# Altium integrated library Agilent LED Display 7-Segment, 1-Digit.IntLib: 237 symbols (part 5 of 5)
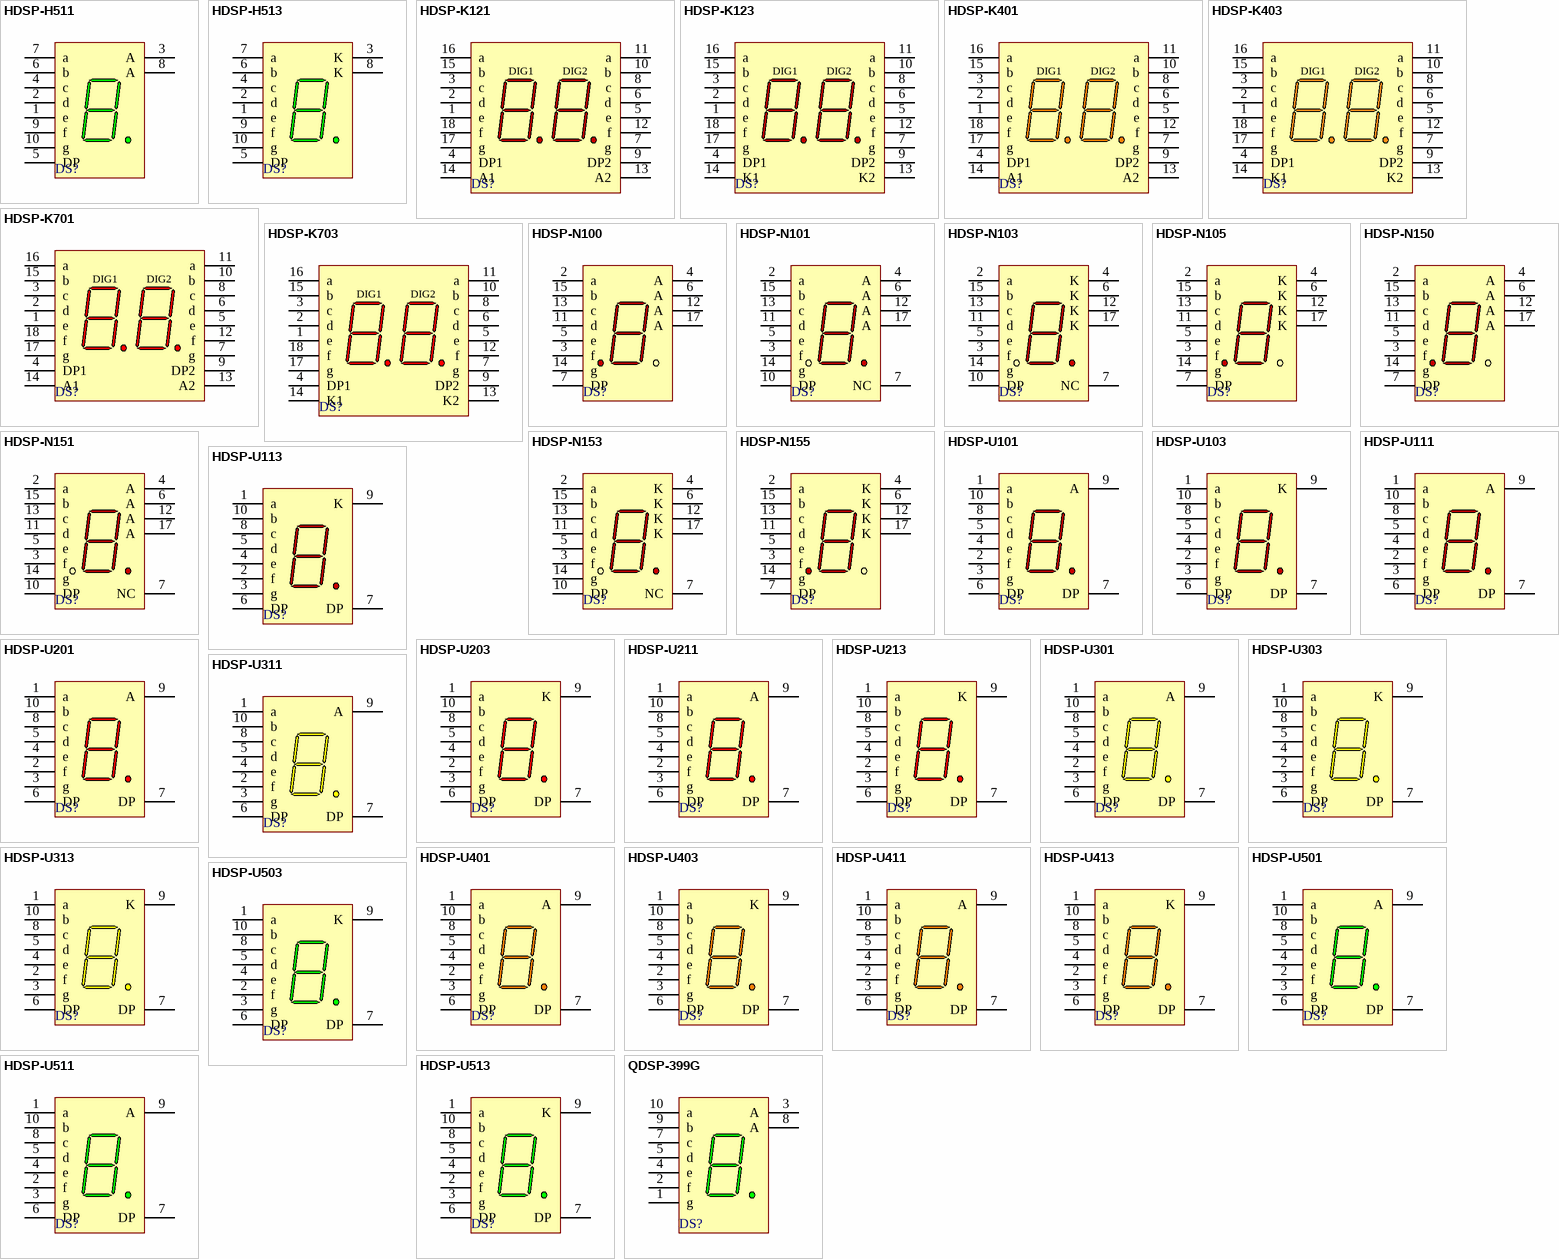
[diagram p9: symbols HDSP-H511 to QDSP-399G]

## HDSP-K701
designator DS?
14.22 mm Low Current HER 7-Segment Display: 2-Digit, CA, RH DP; LuminousIntensity: 270 ucd (Minimum).; LED_Colour: High Efficiency Red (HER); Published: 26-May-2004; LatestRevisionDate: 11-Oct-2004; LatestRevisionNote: Display outline superimposed on PCB Footprint.; DatasheetDocument: 11-Mar-2003; PackageDocument: 09-Jan-2002; PackageReference: K; Publisher: Altium Limited; ComponentLink1Description: Manufacturer Link; ComponentLink1URL: http://www.agilent.com/; ComponentLink2Description: Datasheet; ComponentLink2URL: http://cp.literature.agilent.com/litweb/pdf/5989-2824EN.pdf
footprint K (LED, 7-Segment Display, 14.22 mm, Dual Digit; 18 Leads; Row Space 15.24 mm; Pitch 2.54 mm)
simulation model HDSP_K701 (SUBCKT)
pins: 1 e "Digit 1 e Cathode", 2 d "Digit 1 d Cathode", 3 c "Digit 1 c Cathode", 4 DP1 "Digit 1 DP Cathode", 5 e "Digit 2 e Cathode", 6 d "Digit 2 d Cathode", 7 g "Digit 2 g Cathode", 8 c "Digit 2 c Cathode", 9 DP2 "Digit 2 DP Cathode", 10 b "Digit 2 b Cathode", 11 a "Digit 2 a Cathode", 12 f "Digit 2 f Cathode", 13 A2 "Digit 2 Common Anode", 14 A1 "Digit 1 Common Anode", 15 b "Digit 1 b Cathode", 16 a "Digit 1 a Cathode", 17 g "Digit 1 g Cathode", 18 f "Digit 1 f Cathode"
text: DIG1; DIG2

## HDSP-K703
designator DS?
14.22 mm Low Current HER 7-Segment Display: 2-Digit, CC, RH DP; LuminousIntensity: 270 ucd (Minimum).; LED_Colour: High Efficiency Red (HER); Published: 26-May-2004; LatestRevisionDate: 11-Oct-2004; LatestRevisionNote: Display outline superimposed on PCB Footprint.; DatasheetDocument: 11-Mar-2003; PackageDocument: 09-Jan-2002; PackageReference: K; Publisher: Altium Limited; ComponentLink1Description: Manufacturer Link; ComponentLink1URL: http://www.agilent.com/; ComponentLink2Description: Datasheet; ComponentLink2URL: http://cp.literature.agilent.com/litweb/pdf/5989-2824EN.pdf
footprint K (LED, 7-Segment Display, 14.22 mm, Dual Digit; 18 Leads; Row Space 15.24 mm; Pitch 2.54 mm)
simulation model HDSP_K703 (SUBCKT)
pins: 1 e "Digit 1 e Anode", 2 d "Digit 1 d Anode", 3 c "Digit 1 c Anode", 4 DP1 "Digit 1 DP Anode", 5 e "Digit 2 e Anode", 6 d "Digit 2 d Anode", 7 g "Digit 2 g Anode", 8 c "Digit 2 c Anode", 9 DP2 "Digit 2 DP Anode", 10 b "Digit 2 b Anode", 11 a "Digit 2 a Anode", 12 f "Digit 2 f Anode", 13 K2 "Digit 2 Common Cathode", 14 K1 "Digit 1 Common Cathode", 15 b "Digit 1 b Anode", 16 a "Digit 1 a Anode", 17 g "Digit 1 g Anode", 18 f "Digit 1 f Anode"
text: DIG1; DIG2

## HDSP-N100
designator DS?
20.32 mm Low Current AlGaAs 7-Segment Display: CA, LH DP; LuminousIntensity: 270 ucd (Minimum).; LED_Colour: AlGaAs Red; Note: Pins 4, 6, 12 and 17 are redundant Anodes.; Note: No pins are present in positions 1, 8, 9, 10, 16 and 18.; Published: 26-May-2004; LatestRevisionDate: 11-Oct-2004; LatestRevisionNote: Display outline superimposed on PCB Footprint.; DatasheetDocument: 11-Mar-2003; PackageDocument: 26-Jul-2001; PackageReference: N-12; Publisher: Altium Limited; ComponentLink1Description: Manufacturer Link; ComponentLink1URL: http://www.agilent.com/; ComponentLink2Description: Datasheet; ComponentLink2URL: http://cp.literature.agilent.com/litweb/pdf/5989-2824EN.pdf
footprint N-12 (LED, 7-Segment Display, 20.32 mm, LHD; 18 Leads (6 Absent); Row Space 15.24 mm; Pitch 2.54 mm)
simulation model HDSP_N100 (SUBCKT)
pins: 2 a "Cathode", 3 f "Cathode", 4 A "Anode", 5 e "Cathode", 6 A "Anode", 7 DP "Cathode", 11 d "Cathode", 12 A "Anode", 13 c "Cathode", 14 g "Cathode", 15 b "Cathode", 17 A "Anode"

## HDSP-N101
designator DS?
20.32 mm Low Current AlGaAs 7-Segment Display: CA, RH DP; LuminousIntensity: 270 ucd (Minimum).; LED_Colour: AlGaAs Red; Note: Pins 4, 6, 12 and 17 are redundant Anodes.; Note: No pins are present in positions 1, 8, 9, 16 and 18.; Published: 26-May-2004; LatestRevisionDate: 11-Oct-2004; LatestRevisionNote: Display outline superimposed on PCB Footprint.; DatasheetDocument: 11-Mar-2003; PackageDocument: 26-Jul-2001; PackageReference: N-13; Publisher: Altium Limited; ComponentLink1Description: Manufacturer Link; ComponentLink1URL: http://www.agilent.com/; ComponentLink2Description: Datasheet; ComponentLink2URL: http://cp.literature.agilent.com/litweb/pdf/5989-2824EN.pdf
footprint N-13 (LED, 7-Segment Display, 20.32 mm, RHD; 18 Leads (5 Absent); Row Space 15.24 mm; Pitch 2.54 mm)
simulation model HDSP_N101 (SUBCKT)
pins: 2 a "Cathode", 3 f "Cathode", 4 A "Anode", 5 e "Cathode", 6 A "Anode", 7 NC "No Connect", 10 DP "Cathode", 11 d "Cathode", 12 A "Anode", 13 c "Cathode", 14 g "Cathode", 15 b "Cathode", 17 A "Anode"

## HDSP-N103
designator DS?
20.32 mm Low Current AlGaAs 7-Segment Display: CC, RH DP; LuminousIntensity: 270 ucd (Minimum).; LED_Colour: AlGaAs Red; Note: Pins 4, 6, 12 and 17 are redundant Cathodes.; Note: No pins are present in positions 1, 8, 9, 16 and 18.; Published: 26-May-2004; LatestRevisionDate: 11-Oct-2004; LatestRevisionNote: Display outline superimposed on PCB Footprint.; DatasheetDocument: 11-Mar-2003; PackageDocument: 26-Jul-2001; PackageReference: N-13; Publisher: Altium Limited; ComponentLink1Description: Manufacturer Link; ComponentLink1URL: http://www.agilent.com/; ComponentLink2Description: Datasheet; ComponentLink2URL: http://cp.literature.agilent.com/litweb/pdf/5989-2824EN.pdf
footprint N-13 (LED, 7-Segment Display, 20.32 mm, RHD; 18 Leads (5 Absent); Row Space 15.24 mm; Pitch 2.54 mm)
simulation model HDSP_N103 (SUBCKT)
pins: 2 a "Anode", 3 f "Anode", 4 K "Cathode", 5 e "Anode", 6 K "Cathode", 7 NC "No Connect", 10 DP "Anode", 11 d "Anode", 12 K "Cathode", 13 c "Anode", 14 g "Anode", 15 b "Anode", 17 K "Cathode"

## HDSP-N105
designator DS?
20.32 mm Low Current AlGaAs 7-Segment Display: CC, LH DP; LuminousIntensity: 270 ucd (Minimum).; LED_Colour: AlGaAs Red; Note: Pins 4, 6, 12 and 17 are redundant Cathodes.; Note: No pins are present in positions 1, 8, 9, 10, 16 and 18.; Published: 26-May-2004; LatestRevisionDate: 11-Oct-2004; LatestRevisionNote: Display outline superimposed on PCB Footprint.; DatasheetDocument: 11-Mar-2003; PackageDocument: 26-Jul-2001; PackageReference: N-12; Publisher: Altium Limited; ComponentLink1Description: Manufacturer Link; ComponentLink1URL: http://www.agilent.com/; ComponentLink2Description: Datasheet; ComponentLink2URL: http://cp.literature.agilent.com/litweb/pdf/5989-2824EN.pdf
footprint N-12 (LED, 7-Segment Display, 20.32 mm, LHD; 18 Leads (6 Absent); Row Space 15.24 mm; Pitch 2.54 mm)
simulation model HDSP_N105 (SUBCKT)
pins: 2 a "Anode", 3 f "Anode", 4 K "Cathode", 5 e "Anode", 6 K "Cathode", 7 DP "Anode", 11 d "Anode", 12 K "Cathode", 13 c "Anode", 14 g "Anode", 15 b "Anode", 17 K "Cathode"

## HDSP-N150
designator DS?
20.32 mm Gray Package AlGaAs 7-Segment Display: CA, LH DP; LuminousIntensity: 6000 ucd (Minimum).; LED_Colour: AlGaAs Red; Note: Pins 4, 6, 12 and 17 are redundant Anodes.; Note: No pins are present in positions 1, 8, 9, 10, 16 and 18.; Published: 26-May-2004; LatestRevisionDate: 11-Oct-2004; LatestRevisionNote: Display outline superimposed on PCB Footprint.; DatasheetDocument: 26-Jul-2001; PackageDocument: 26-Jul-2001; PackageReference: N-12; Publisher: Altium Limited; ComponentLink1Description: Manufacturer Link; ComponentLink1URL: http://www.agilent.com/; ComponentLink2Description: Datasheet; ComponentLink2URL: http://cp.literature.agilent.com/litweb/pdf/5988-1737EN.pdf
footprint N-12 (LED, 7-Segment Display, 20.32 mm, LHD; 18 Leads (6 Absent); Row Space 15.24 mm; Pitch 2.54 mm)
simulation model HDSP_N150 (SUBCKT)
pins: 2 a "Cathode", 3 f "Cathode", 4 A "Anode", 5 e "Cathode", 6 A "Anode", 7 DP "Cathode", 11 d "Cathode", 12 A "Anode", 13 c "Cathode", 14 g "Cathode", 15 b "Cathode", 17 A "Anode"

## HDSP-N151
designator DS?
20.32 mm Gray Package AlGaAs 7-Segment Display: CA, RH DP; LuminousIntensity: 6000 ucd (Minimum).; LED_Colour: AlGaAs Red; Note: Pins 4, 6, 12 and 17 are redundant Anodes.; Note: No pins are present in positions 1, 8, 9, 16 and 18.; Published: 26-May-2004; LatestRevisionDate: 11-Oct-2004; LatestRevisionNote: Display outline superimposed on PCB Footprint.; DatasheetDocument: 26-Jul-2001; PackageDocument: 26-Jul-2001; PackageReference: N-13; Publisher: Altium Limited; ComponentLink1Description: Manufacturer Link; ComponentLink1URL: http://www.agilent.com/; ComponentLink2Description: Datasheet; ComponentLink2URL: http://cp.literature.agilent.com/litweb/pdf/5988-1737EN.pdf
footprint N-13 (LED, 7-Segment Display, 20.32 mm, RHD; 18 Leads (5 Absent); Row Space 15.24 mm; Pitch 2.54 mm)
simulation model HDSP_N151 (SUBCKT)
pins: 2 a "Cathode", 3 f "Cathode", 4 A "Anode", 5 e "Cathode", 6 A "Anode", 7 NC "No Connect", 10 DP "Cathode", 11 d "Cathode", 12 A "Anode", 13 c "Cathode", 14 g "Cathode", 15 b "Cathode", 17 A "Anode"

## HDSP-N153
designator DS?
20.32 mm Gray Package AlGaAs 7-Segment Display: CC, RH DP; LuminousIntensity: 6000 ucd (Minimum).; LED_Colour: AlGaAs Red; Note: Pins 4, 6, 12 and 17 are redundant Cathodes.; Note: No pins are present in positions 1, 8, 9, 16 and 18.; Published: 26-May-2004; LatestRevisionDate: 11-Oct-2004; LatestRevisionNote: Display outline superimposed on PCB Footprint.; DatasheetDocument: 26-Jul-2001; PackageDocument: 26-Jul-2001; PackageReference: N-13; Publisher: Altium Limited; ComponentLink1Description: Manufacturer Link; ComponentLink1URL: http://www.agilent.com/; ComponentLink2Description: Datasheet; ComponentLink2URL: http://cp.literature.agilent.com/litweb/pdf/5988-1737EN.pdf
footprint N-13 (LED, 7-Segment Display, 20.32 mm, RHD; 18 Leads (5 Absent); Row Space 15.24 mm; Pitch 2.54 mm)
simulation model HDSP_N153 (SUBCKT)
pins: 2 a "Anode", 3 f "Anode", 4 K "Cathode", 5 e "Anode", 6 K "Cathode", 7 NC "No Connect", 10 DP "Anode", 11 d "Anode", 12 K "Cathode", 13 c "Anode", 14 g "Anode", 15 b "Anode", 17 K "Cathode"

## HDSP-N155
designator DS?
20.32 mm Gray Package AlGaAs 7-Segment Display: CC, LH DP; LuminousIntensity: 6000 ucd (Minimum).; LED_Colour: AlGaAs Red; Note: Pins 4, 6, 12 and 17 are redundant Cathodes.; Note: No pins are present in positions 1, 8, 9, 10, 16 and 18.; Published: 26-May-2004; LatestRevisionDate: 11-Oct-2004; LatestRevisionNote: Display outline superimposed on PCB Footprint.; DatasheetDocument: 26-Jul-2001; PackageDocument: 26-Jul-2001; PackageReference: N-12; Publisher: Altium Limited; ComponentLink1Description: Manufacturer Link; ComponentLink1URL: http://www.agilent.com/; ComponentLink2Description: Datasheet; ComponentLink2URL: http://cp.literature.agilent.com/litweb/pdf/5988-1737EN.pdf
footprint N-12 (LED, 7-Segment Display, 20.32 mm, LHD; 18 Leads (6 Absent); Row Space 15.24 mm; Pitch 2.54 mm)
simulation model HDSP_N155 (SUBCKT)
pins: 2 a "Anode", 3 f "Anode", 4 K "Cathode", 5 e "Anode", 6 K "Cathode", 7 DP "Anode", 11 d "Anode", 12 K "Cathode", 13 c "Anode", 14 g "Anode", 15 b "Anode", 17 K "Cathode"

## HDSP-U101
designator DS?
8 mm Gray Surface Ultra Mini AlGaAs Red 7-Segment Display: CA, RH DP; LuminousIntensity: 315 ucd (Minimum).; Published: 26-May-2004; LatestRevisionDate: 11-Oct-2004; LatestRevisionNote: Display outline superimposed on PCB Footprint.; DatasheetDocument: 26-Jul-2001; PackageDocument: 26-Jul-2001; PackageReference: U; Publisher: Altium Limited; LED_Colour: AlGaAs Red; ComponentLink1Description: Manufacturer Link; ComponentLink1URL: http://www.agilent.com/; ComponentLink2Description: Datasheet; ComponentLink2URL: http://cp.literature.agilent.com/litweb/pdf/5988-2220EN.pdf
footprint U (LED, 7-Segment Display, 8 mm, RHD; 10 Leads; Row Space 5.31 mm; Pitch 2.01 mm)
simulation model HDSP_U101 (SUBCKT)
pins: 1 a "Cathode", 2 f "Cathode", 3 g "Cathode", 4 e "Cathode", 5 d "Cathode", 6 DP "Cathode", 7 DP "Anode", 8 c "Cathode", 9 A "Anode", 10 b "Cathode"

## HDSP-U103
designator DS?
8 mm Gray Surface Ultra Mini AlGaAs Red 7-Segment Display: CC, RH DP; LuminousIntensity: 315 ucd (Minimum).; Published: 26-May-2004; LatestRevisionDate: 11-Oct-2004; LatestRevisionNote: Display outline superimposed on PCB Footprint.; DatasheetDocument: 26-Jul-2001; PackageDocument: 26-Jul-2001; PackageReference: U; Publisher: Altium Limited; LED_Colour: AlGaAs Red; ComponentLink1Description: Manufacturer Link; ComponentLink1URL: http://www.agilent.com/; ComponentLink2Description: Datasheet; ComponentLink2URL: http://cp.literature.agilent.com/litweb/pdf/5988-2220EN.pdf
footprint U (LED, 7-Segment Display, 8 mm, RHD; 10 Leads; Row Space 5.31 mm; Pitch 2.01 mm)
simulation model HDSP_U103 (SUBCKT)
pins: 1 a "Anode", 2 f "Anode", 3 g "Anode", 4 e "Anode", 5 d "Anode", 6 DP "Cathode", 7 DP "Anode", 8 c "Anode", 9 K "Cathode", 10 b "Anode"

## HDSP-U111
designator DS?
8 mm Black Surface Ultra Mini AlGaAs Red 7-Segment Display: CA, RH DP; LuminousIntensity: 315 ucd (Minimum).; Published: 26-May-2004; LatestRevisionDate: 11-Oct-2004; LatestRevisionNote: Display outline superimposed on PCB Footprint.; DatasheetDocument: 26-Jul-2001; PackageDocument: 26-Jul-2001; PackageReference: U; Publisher: Altium Limited; LED_Colour: AlGaAs Red; ComponentLink1Description: Manufacturer Link; ComponentLink1URL: http://www.agilent.com/; ComponentLink2Description: Datasheet; ComponentLink2URL: http://cp.literature.agilent.com/litweb/pdf/5988-2220EN.pdf
footprint U (LED, 7-Segment Display, 8 mm, RHD; 10 Leads; Row Space 5.31 mm; Pitch 2.01 mm)
simulation model HDSP_U101 (SUBCKT)
pins: 1 a "Cathode", 2 f "Cathode", 3 g "Cathode", 4 e "Cathode", 5 d "Cathode", 6 DP "Cathode", 7 DP "Anode", 8 c "Cathode", 9 A "Anode", 10 b "Cathode"

## HDSP-U113
designator DS?
8 mm Black Surface Ultra Mini AlGaAs Red 7-Segment Display: CC, RH DP; LuminousIntensity: 315 ucd (Minimum).; Published: 26-May-2004; LatestRevisionDate: 11-Oct-2004; LatestRevisionNote: Display outline superimposed on PCB Footprint.; DatasheetDocument: 26-Jul-2001; PackageDocument: 26-Jul-2001; PackageReference: U; Publisher: Altium Limited; LED_Colour: AlGaAs Red; ComponentLink1Description: Manufacturer Link; ComponentLink1URL: http://www.agilent.com/; ComponentLink2Description: Datasheet; ComponentLink2URL: http://cp.literature.agilent.com/litweb/pdf/5988-2220EN.pdf
footprint U (LED, 7-Segment Display, 8 mm, RHD; 10 Leads; Row Space 5.31 mm; Pitch 2.01 mm)
simulation model HDSP_U103 (SUBCKT)
pins: 1 a "Anode", 2 f "Anode", 3 g "Anode", 4 e "Anode", 5 d "Anode", 6 DP "Cathode", 7 DP "Anode", 8 c "Anode", 9 K "Cathode", 10 b "Anode"

## HDSP-U201
designator DS?
8 mm Gray Surface Ultra Mini HER 7-Segment Display: CA, RH DP; LuminousIntensity: 360 ucd (Minimum).; LED_Colour: High Efficiency Red (HER); Published: 26-May-2004; LatestRevisionDate: 11-Oct-2004; LatestRevisionNote: Display outline superimposed on PCB Footprint.; DatasheetDocument: 26-Jul-2001; PackageDocument: 26-Jul-2001; PackageReference: U; Publisher: Altium Limited; ComponentLink1Description: Manufacturer Link; ComponentLink1URL: http://www.agilent.com/; ComponentLink2Description: Datasheet; ComponentLink2URL: http://cp.literature.agilent.com/litweb/pdf/5988-2220EN.pdf
footprint U (LED, 7-Segment Display, 8 mm, RHD; 10 Leads; Row Space 5.31 mm; Pitch 2.01 mm)
simulation model HDSP_U201 (SUBCKT)
pins: 1 a "Cathode", 2 f "Cathode", 3 g "Cathode", 4 e "Cathode", 5 d "Cathode", 6 DP "Cathode", 7 DP "Anode", 8 c "Cathode", 9 A "Anode", 10 b "Cathode"

## HDSP-U203
designator DS?
8 mm Gray Surface Ultra Mini HER 7-Segment Display: CC, RH DP; LuminousIntensity: 360 ucd (Minimum).; LED_Colour: High Efficiency Red (HER); Published: 26-May-2004; LatestRevisionDate: 11-Oct-2004; LatestRevisionNote: Display outline superimposed on PCB Footprint.; DatasheetDocument: 26-Jul-2001; PackageDocument: 26-Jul-2001; PackageReference: U; Publisher: Altium Limited; ComponentLink1Description: Manufacturer Link; ComponentLink1URL: http://www.agilent.com/; ComponentLink2Description: Datasheet; ComponentLink2URL: http://cp.literature.agilent.com/litweb/pdf/5988-2220EN.pdf
footprint U (LED, 7-Segment Display, 8 mm, RHD; 10 Leads; Row Space 5.31 mm; Pitch 2.01 mm)
simulation model HDSP_U203 (SUBCKT)
pins: 1 a "Anode", 2 f "Anode", 3 g "Anode", 4 e "Anode", 5 d "Anode", 6 DP "Cathode", 7 DP "Anode", 8 c "Anode", 9 K "Cathode", 10 b "Anode"

## HDSP-U211
designator DS?
8 mm Black Surface Ultra Mini HER 7-Segment Display: CA, RH DP; LuminousIntensity: 360 ucd (Minimum).; LED_Colour: High Efficiency Red (HER); Published: 26-May-2004; LatestRevisionDate: 11-Oct-2004; LatestRevisionNote: Display outline superimposed on PCB Footprint.; DatasheetDocument: 26-Jul-2001; PackageDocument: 26-Jul-2001; PackageReference: U; Publisher: Altium Limited; ComponentLink1Description: Manufacturer Link; ComponentLink1URL: http://www.agilent.com/; ComponentLink2Description: Datasheet; ComponentLink2URL: http://cp.literature.agilent.com/litweb/pdf/5988-2220EN.pdf
footprint U (LED, 7-Segment Display, 8 mm, RHD; 10 Leads; Row Space 5.31 mm; Pitch 2.01 mm)
simulation model HDSP_U201 (SUBCKT)
pins: 1 a "Cathode", 2 f "Cathode", 3 g "Cathode", 4 e "Cathode", 5 d "Cathode", 6 DP "Cathode", 7 DP "Anode", 8 c "Cathode", 9 A "Anode", 10 b "Cathode"

## HDSP-U213
designator DS?
8 mm Black Surface Ultra Mini HER 7-Segment Display: CC, RH DP; LuminousIntensity: 360 ucd (Minimum).; LED_Colour: High Efficiency Red (HER); Published: 26-May-2004; LatestRevisionDate: 11-Oct-2004; LatestRevisionNote: Display outline superimposed on PCB Footprint.; DatasheetDocument: 26-Jul-2001; PackageDocument: 26-Jul-2001; PackageReference: U; Publisher: Altium Limited; ComponentLink1Description: Manufacturer Link; ComponentLink1URL: http://www.agilent.com/; ComponentLink2Description: Datasheet; ComponentLink2URL: http://cp.literature.agilent.com/litweb/pdf/5988-2220EN.pdf
footprint U (LED, 7-Segment Display, 8 mm, RHD; 10 Leads; Row Space 5.31 mm; Pitch 2.01 mm)
simulation model HDSP_U203 (SUBCKT)
pins: 1 a "Anode", 2 f "Anode", 3 g "Anode", 4 e "Anode", 5 d "Anode", 6 DP "Cathode", 7 DP "Anode", 8 c "Anode", 9 K "Cathode", 10 b "Anode"

## HDSP-U301
designator DS?
8 mm Gray Surface Ultra Mini Yellow 7-Segment Display: CA, RH DP; LuminousIntensity: 225 ucd (Minimum).; Published: 26-May-2004; LatestRevisionDate: 11-Oct-2004; LatestRevisionNote: Display outline superimposed on PCB Footprint.; DatasheetDocument: 26-Jul-2001; PackageDocument: 26-Jul-2001; PackageReference: U; Publisher: Altium Limited; LED_Colour: Yellow; ComponentLink1Description: Manufacturer Link; ComponentLink1URL: http://www.agilent.com/; ComponentLink2Description: Datasheet; ComponentLink2URL: http://cp.literature.agilent.com/litweb/pdf/5988-2220EN.pdf
footprint U (LED, 7-Segment Display, 8 mm, RHD; 10 Leads; Row Space 5.31 mm; Pitch 2.01 mm)
simulation model HDSP_U301 (SUBCKT)
pins: 1 a "Cathode", 2 f "Cathode", 3 g "Cathode", 4 e "Cathode", 5 d "Cathode", 6 DP "Cathode", 7 DP "Anode", 8 c "Cathode", 9 A "Anode", 10 b "Cathode"

## HDSP-U303
designator DS?
8 mm Gray Surface Ultra Mini Yellow 7-Segment Display: CC, RH DP; LuminousIntensity: 225 ucd (Minimum).; Published: 26-May-2004; LatestRevisionDate: 11-Oct-2004; LatestRevisionNote: Display outline superimposed on PCB Footprint.; DatasheetDocument: 26-Jul-2001; PackageDocument: 26-Jul-2001; PackageReference: U; Publisher: Altium Limited; LED_Colour: Yellow; ComponentLink1Description: Manufacturer Link; ComponentLink1URL: http://www.agilent.com/; ComponentLink2Description: Datasheet; ComponentLink2URL: http://cp.literature.agilent.com/litweb/pdf/5988-2220EN.pdf
footprint U (LED, 7-Segment Display, 8 mm, RHD; 10 Leads; Row Space 5.31 mm; Pitch 2.01 mm)
simulation model HDSP_U303 (SUBCKT)
pins: 1 a "Anode", 2 f "Anode", 3 g "Anode", 4 e "Anode", 5 d "Anode", 6 DP "Cathode", 7 DP "Anode", 8 c "Anode", 9 K "Cathode", 10 b "Anode"

## HDSP-U311
designator DS?
8 mm Black Surface Ultra Mini Yellow 7-Segment Display: CA, RH DP; LuminousIntensity: 225 ucd (Minimum).; Published: 26-May-2004; LatestRevisionDate: 11-Oct-2004; LatestRevisionNote: Display outline superimposed on PCB Footprint.; DatasheetDocument: 26-Jul-2001; PackageDocument: 26-Jul-2001; PackageReference: U; Publisher: Altium Limited; LED_Colour: Yellow; ComponentLink1Description: Manufacturer Link; ComponentLink1URL: http://www.agilent.com/; ComponentLink2Description: Datasheet; ComponentLink2URL: http://cp.literature.agilent.com/litweb/pdf/5988-2220EN.pdf
footprint U (LED, 7-Segment Display, 8 mm, RHD; 10 Leads; Row Space 5.31 mm; Pitch 2.01 mm)
simulation model HDSP_U301 (SUBCKT)
pins: 1 a "Cathode", 2 f "Cathode", 3 g "Cathode", 4 e "Cathode", 5 d "Cathode", 6 DP "Cathode", 7 DP "Anode", 8 c "Cathode", 9 A "Anode", 10 b "Cathode"

## HDSP-U313
designator DS?
8 mm Black Surface Ultra Mini Yellow 7-Segment Display: CC, RH DP; LuminousIntensity: 225 ucd (Minimum).; Published: 26-May-2004; LatestRevisionDate: 11-Oct-2004; LatestRevisionNote: Display outline superimposed on PCB Footprint.; DatasheetDocument: 26-Jul-2001; PackageDocument: 26-Jul-2001; PackageReference: U; Publisher: Altium Limited; LED_Colour: Yellow; ComponentLink1Description: Manufacturer Link; ComponentLink1URL: http://www.agilent.com/; ComponentLink2Description: Datasheet; ComponentLink2URL: http://cp.literature.agilent.com/litweb/pdf/5988-2220EN.pdf
footprint U (LED, 7-Segment Display, 8 mm, RHD; 10 Leads; Row Space 5.31 mm; Pitch 2.01 mm)
simulation model HDSP_U303 (SUBCKT)
pins: 1 a "Anode", 2 f "Anode", 3 g "Anode", 4 e "Anode", 5 d "Anode", 6 DP "Cathode", 7 DP "Anode", 8 c "Anode", 9 K "Cathode", 10 b "Anode"

## HDSP-U401
designator DS?
8 mm Gray Surface Ultra Mini Orange 7-Segment Display: CA, RH DP; LuminousIntensity: 360 ucd (Minimum).; Published: 26-May-2004; LatestRevisionDate: 11-Oct-2004; LatestRevisionNote: Display outline superimposed on PCB Footprint.; DatasheetDocument: 26-Jul-2001; PackageDocument: 26-Jul-2001; PackageReference: U; Publisher: Altium Limited; LED_Colour: Orange; ComponentLink1Description: Manufacturer Link; ComponentLink1URL: http://www.agilent.com/; ComponentLink2Description: Datasheet; ComponentLink2URL: http://cp.literature.agilent.com/litweb/pdf/5988-2220EN.pdf
footprint U (LED, 7-Segment Display, 8 mm, RHD; 10 Leads; Row Space 5.31 mm; Pitch 2.01 mm)
simulation model HDSP_U401 (SUBCKT)
pins: 1 a "Cathode", 2 f "Cathode", 3 g "Cathode", 4 e "Cathode", 5 d "Cathode", 6 DP "Cathode", 7 DP "Anode", 8 c "Cathode", 9 A "Anode", 10 b "Cathode"

## HDSP-U403
designator DS?
8 mm Gray Surface Ultra Mini Orange 7-Segment Display: CC, RH DP; LuminousIntensity: 360 ucd (Minimum).; Published: 26-May-2004; LatestRevisionDate: 11-Oct-2004; LatestRevisionNote: Display outline superimposed on PCB Footprint.; DatasheetDocument: 26-Jul-2001; PackageDocument: 26-Jul-2001; PackageReference: U; Publisher: Altium Limited; LED_Colour: Orange; ComponentLink1Description: Manufacturer Link; ComponentLink1URL: http://www.agilent.com/; ComponentLink2Description: Datasheet; ComponentLink2URL: http://cp.literature.agilent.com/litweb/pdf/5988-2220EN.pdf
footprint U (LED, 7-Segment Display, 8 mm, RHD; 10 Leads; Row Space 5.31 mm; Pitch 2.01 mm)
simulation model HDSP_U403 (SUBCKT)
pins: 1 a "Anode", 2 f "Anode", 3 g "Anode", 4 e "Anode", 5 d "Anode", 6 DP "Cathode", 7 DP "Anode", 8 c "Anode", 9 K "Cathode", 10 b "Anode"

## HDSP-U411
designator DS?
8 mm Black Surface Ultra Mini Orange 7-Segment Display: CA, RH DP; LuminousIntensity: 360 ucd (Minimum).; Published: 26-May-2004; LatestRevisionDate: 11-Oct-2004; LatestRevisionNote: Display outline superimposed on PCB Footprint.; DatasheetDocument: 26-Jul-2001; PackageDocument: 26-Jul-2001; PackageReference: U; Publisher: Altium Limited; LED_Colour: Orange; ComponentLink1Description: Manufacturer Link; ComponentLink1URL: http://www.agilent.com/; ComponentLink2Description: Datasheet; ComponentLink2URL: http://cp.literature.agilent.com/litweb/pdf/5988-2220EN.pdf
footprint U (LED, 7-Segment Display, 8 mm, RHD; 10 Leads; Row Space 5.31 mm; Pitch 2.01 mm)
simulation model HDSP_U401 (SUBCKT)
pins: 1 a "Cathode", 2 f "Cathode", 3 g "Cathode", 4 e "Cathode", 5 d "Cathode", 6 DP "Cathode", 7 DP "Anode", 8 c "Cathode", 9 A "Anode", 10 b "Cathode"

## HDSP-U413
designator DS?
8 mm Black Surface Ultra Mini Orange 7-Segment Display: CC, RH DP; LuminousIntensity: 360 ucd (Minimum).; Published: 26-May-2004; LatestRevisionDate: 11-Oct-2004; LatestRevisionNote: Display outline superimposed on PCB Footprint.; DatasheetDocument: 26-Jul-2001; PackageDocument: 26-Jul-2001; PackageReference: U; Publisher: Altium Limited; LED_Colour: Orange; ComponentLink1Description: Manufacturer Link; ComponentLink1URL: http://www.agilent.com/; ComponentLink2Description: Datasheet; ComponentLink2URL: http://cp.literature.agilent.com/litweb/pdf/5988-2220EN.pdf
footprint U (LED, 7-Segment Display, 8 mm, RHD; 10 Leads; Row Space 5.31 mm; Pitch 2.01 mm)
simulation model HDSP_U403 (SUBCKT)
pins: 1 a "Anode", 2 f "Anode", 3 g "Anode", 4 e "Anode", 5 d "Anode", 6 DP "Cathode", 7 DP "Anode", 8 c "Anode", 9 K "Cathode", 10 b "Anode"

## HDSP-U501
designator DS?
8 mm Gray Surface Ultra Mini Green 7-Segment Display: CA, RH DP; LuminousIntensity: 860 ucd (Minimum).; Published: 26-May-2004; LatestRevisionDate: 11-Oct-2004; LatestRevisionNote: Display outline superimposed on PCB Footprint.; DatasheetDocument: 26-Jul-2001; PackageDocument: 26-Jul-2001; PackageReference: U; Publisher: Altium Limited; LED_Colour: Green; ComponentLink1Description: Manufacturer Link; ComponentLink1URL: http://www.agilent.com/; ComponentLink2Description: Datasheet; ComponentLink2URL: http://cp.literature.agilent.com/litweb/pdf/5988-2220EN.pdf
footprint U (LED, 7-Segment Display, 8 mm, RHD; 10 Leads; Row Space 5.31 mm; Pitch 2.01 mm)
simulation model HDSP_U501 (SUBCKT)
pins: 1 a "Cathode", 2 f "Cathode", 3 g "Cathode", 4 e "Cathode", 5 d "Cathode", 6 DP "Cathode", 7 DP "Anode", 8 c "Cathode", 9 A "Anode", 10 b "Cathode"

## HDSP-U503
designator DS?
8 mm Gray Surface Ultra Mini Green 7-Segment Display: CC, RH DP; LuminousIntensity: 860 ucd (Minimum).; Published: 26-May-2004; LatestRevisionDate: 11-Oct-2004; LatestRevisionNote: Display outline superimposed on PCB Footprint.; DatasheetDocument: 26-Jul-2001; PackageDocument: 26-Jul-2001; PackageReference: U; Publisher: Altium Limited; LED_Colour: Green; ComponentLink1Description: Manufacturer Link; ComponentLink1URL: http://www.agilent.com/; ComponentLink2Description: Datasheet; ComponentLink2URL: http://cp.literature.agilent.com/litweb/pdf/5988-2220EN.pdf
footprint U (LED, 7-Segment Display, 8 mm, RHD; 10 Leads; Row Space 5.31 mm; Pitch 2.01 mm)
simulation model HDSP_U503 (SUBCKT)
pins: 1 a "Anode", 2 f "Anode", 3 g "Anode", 4 e "Anode", 5 d "Anode", 6 DP "Cathode", 7 DP "Anode", 8 c "Anode", 9 K "Cathode", 10 b "Anode"

## HDSP-U511
designator DS?
8 mm Black Surface Ultra Mini Green 7-Segment Display: CA, RH DP; LuminousIntensity: 860 ucd (Minimum).; Published: 26-May-2004; LatestRevisionDate: 11-Oct-2004; LatestRevisionNote: Display outline superimposed on PCB Footprint.; DatasheetDocument: 26-Jul-2001; PackageDocument: 26-Jul-2001; PackageReference: U; Publisher: Altium Limited; LED_Colour: Green; ComponentLink1Description: Manufacturer Link; ComponentLink1URL: http://www.agilent.com/; ComponentLink2Description: Datasheet; ComponentLink2URL: http://cp.literature.agilent.com/litweb/pdf/5988-2220EN.pdf
footprint U (LED, 7-Segment Display, 8 mm, RHD; 10 Leads; Row Space 5.31 mm; Pitch 2.01 mm)
simulation model HDSP_U501 (SUBCKT)
pins: 1 a "Cathode", 2 f "Cathode", 3 g "Cathode", 4 e "Cathode", 5 d "Cathode", 6 DP "Cathode", 7 DP "Anode", 8 c "Cathode", 9 A "Anode", 10 b "Cathode"

## HDSP-U513
designator DS?
8 mm Black Surface Ultra Mini Green 7-Segment Display: CC, RH DP; LuminousIntensity: 860 ucd (Minimum).; Published: 26-May-2004; LatestRevisionDate: 11-Oct-2004; LatestRevisionNote: Display outline superimposed on PCB Footprint.; DatasheetDocument: 26-Jul-2001; PackageDocument: 26-Jul-2001; PackageReference: U; Publisher: Altium Limited; LED_Colour: Green; ComponentLink1Description: Manufacturer Link; ComponentLink1URL: http://www.agilent.com/; ComponentLink2Description: Datasheet; ComponentLink2URL: http://cp.literature.agilent.com/litweb/pdf/5988-2220EN.pdf
footprint U (LED, 7-Segment Display, 8 mm, RHD; 10 Leads; Row Space 5.31 mm; Pitch 2.01 mm)
simulation model HDSP_U503 (SUBCKT)
pins: 1 a "Anode", 2 f "Anode", 3 g "Anode", 4 e "Anode", 5 d "Anode", 6 DP "Cathode", 7 DP "Anode", 8 c "Anode", 9 K "Cathode", 10 b "Anode"

## QDSP-399G
designator DS?
10 mm Gray Surface 7-Segment Display: 1-Digit, CA, Slim Font, Untinted-Diffused without Pin 6 and No DP; LuminousIntensity: 2001 ucd (Minimum).; LED_Colour: Green; Published: 26-May-2004; LatestRevisionDate: 11-Oct-2004; LatestRevisionNote: Display outline superimposed on PCB Footprint.; DatasheetDocument: 17-Jan-2002; PackageDocument: 17-Jan-2002; PackageReference: QDSP-3; Publisher: Altium Limited; ComponentLink1Description: Manufacturer Link; ComponentLink1URL: http://www.agilent.com/; ComponentLink2Description: Datasheet; ComponentLink2URL: http://cp.literature.agilent.com/litweb/pdf/5988-5013EN.pdf
footprint QDSP-3 (LED, 7-Segment Display, 10 mm, RHD; 10 Leads (1 Absent); Row Space 7.62 mm; Pitch 2.54 mm)
simulation model QDSP_399G (SUBCKT)
pins: 1 g "Cathode", 2 f "Cathode", 3 A "Anode", 4 e "Cathode", 5 d "Cathode", 7 c "Cathode", 8 A "Anode", 9 b "Cathode", 10 a "Cathode"